# Altium schematic symbol library 6903 6719 xx 72.SchLib: 12 symbols
Pins are listed as number, name and electrical type; pins without a type are passive.

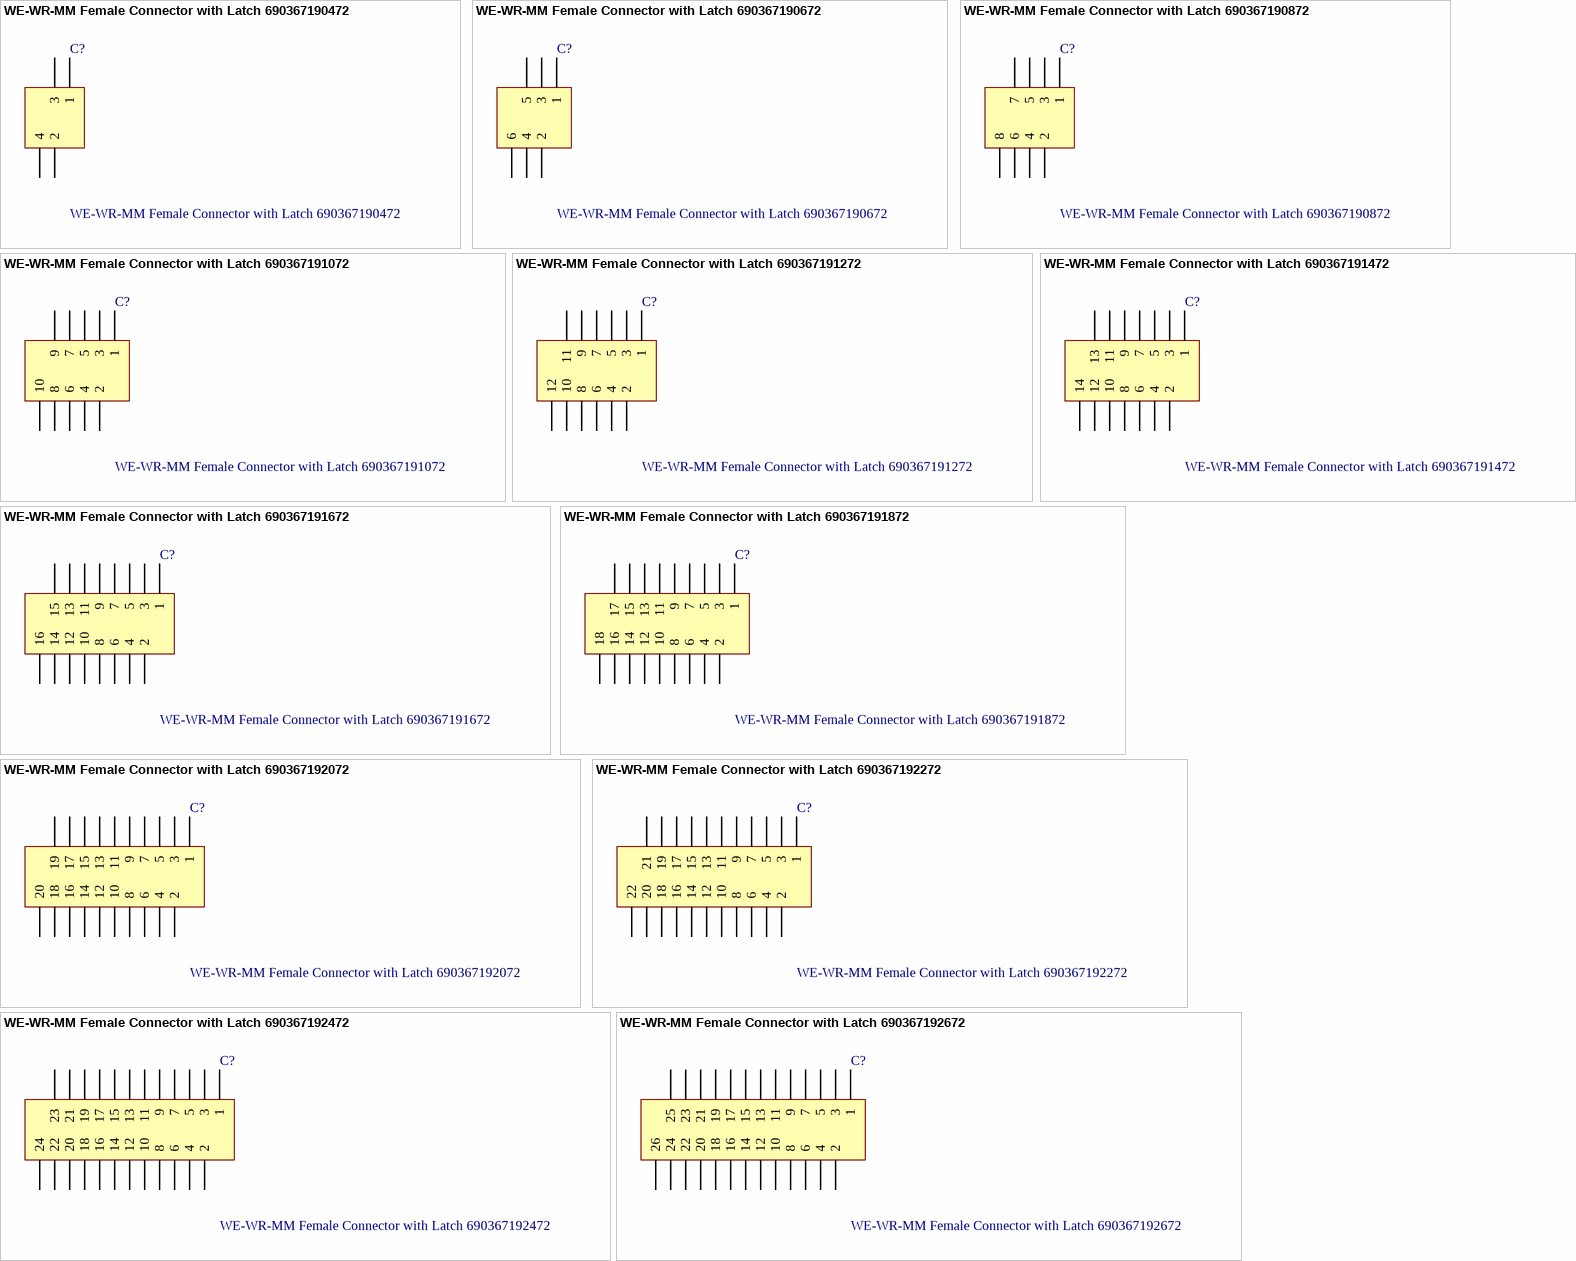
[diagram p0: symbols WE-WR-MM Female Connector with Latch 690367190472 to WE-WR-MM Female Connector with Latch 690367192672]

## WE-WR-MM Female Connector with Latch 690367190472
designator C?
WR-MM Female Connector with Latch; Manufacturer: Würth Elektronik eiSos GmbH; ComponentLink1 Description: Manufacturer; ComponentLink2 Description: Datasheet; NoPins: 4; Created Date: 17 April 2013; partNo: 690367190472; ComponentLink1URL: http://www.we-online.com; ComponentLink2URL: http://katalog.we-online.de/em/datasheet/69036719xx72.pdf; Created by: Karrer Zheng
footprint 690367190472 (without Polarization, 4 pins, straight)
pins: 1, 2, 3, 4

## WE-WR-MM Female Connector with Latch 690367190672
designator C?
WR-MM Female Connector with Latch; Manufacturer: Würth Elektronik eiSos GmbH; ComponentLink1 Description: Manufacturer; ComponentLink2 Description: Datasheet; NoPins: 6; Created Date: 17 April 2013; partNo: 690367190672; ComponentLink1URL: http://www.we-online.com; ComponentLink2URL: http://katalog.we-online.de/em/datasheet/69036719xx72.pdf; Created by: Karrer Zheng
footprint 690367190672 (without Polarization, 6 pins, straight)
pins: 1, 2, 3, 4, 5, 6

## WE-WR-MM Female Connector with Latch 690367190872
designator C?
WR-MM Female Connector with Latch; Manufacturer: Würth Elektronik eiSos GmbH; ComponentLink1 Description: Manufacturer; ComponentLink2 Description: Datasheet; NoPins: 8; Created Date: 17 April 2013; partNo: 690367190872; ComponentLink1URL: http://www.we-online.com; ComponentLink2URL: http://katalog.we-online.de/em/datasheet/69036719xx72.pdf; Created by: Karrer Zheng
footprint 690367190872 (without Polarization, 8 pins, straight)
pins: 1, 2, 3, 4, 5, 6, 7, 8

## WE-WR-MM Female Connector with Latch 690367191072
designator C?
WR-MM Female Connector with Latch; Manufacturer: Würth Elektronik eiSos GmbH; ComponentLink1 Description: Manufacturer; ComponentLink2 Description: Datasheet; NoPins: 10; Created Date: 17 April 2013; partNo: 690367191072; ComponentLink1URL: http://www.we-online.com; ComponentLink2URL: http://katalog.we-online.de/em/datasheet/69036719xx72.pdf; Created by: Karrer Zheng
footprint 690367191072 (without Polarization, 10 pins, straight)
pins: 1, 2, 3, 4, 5, 6, 7, 8, 9, 10

## WE-WR-MM Female Connector with Latch 690367191272
designator C?
WR-MM Female Connector with Latch; Manufacturer: Würth Elektronik eiSos GmbH; ComponentLink1 Description: Manufacturer; ComponentLink2 Description: Datasheet; NoPins: 12; Created Date: 17 April 2013; partNo: 690367191272; ComponentLink1URL: http://www.we-online.com; ComponentLink2URL: http://katalog.we-online.de/em/datasheet/69036719xx72.pdf; Created by: Karrer Zheng
footprint 690367191272 (without Polarization, 12 pins, straight)
pins: 1, 2, 3, 4, 5, 6, 7, 8, 9, 10, 11, 12

## WE-WR-MM Female Connector with Latch 690367191472
designator C?
WR-MM Female Connector with Latch; Manufacturer: Würth Elektronik eiSos GmbH; ComponentLink1 Description: Manufacturer; ComponentLink2 Description: Datasheet; NoPins: 14; Created Date: 17 April 2013; partNo: 690367191472; ComponentLink1URL: http://www.we-online.com; ComponentLink2URL: http://katalog.we-online.de/em/datasheet/69036719xx72.pdf; Created by: Karrer Zheng
footprint 690367191472 (without Polarization, 14 pins, straight)
pins: 1, 2, 3, 4, 5, 6, 7, 8, 9, 10, 11, 12, 13, 14

## WE-WR-MM Female Connector with Latch 690367191672
designator C?
WR-MM Female Connector with Latch; Manufacturer: Würth Elektronik eiSos GmbH; ComponentLink1 Description: Manufacturer; ComponentLink2 Description: Datasheet; NoPins: 16; Created Date: 17 April 2013; partNo: 690367191672; ComponentLink1URL: http://www.we-online.com; ComponentLink2URL: http://katalog.we-online.de/em/datasheet/69036719xx72.pdf; Created by: Karrer Zheng
footprint 690367191672 (without Polarization, 16 pins, straight)
pins: 1, 2, 3, 4, 5, 6, 7, 8, 9, 10, 11, 12, 13, 14, 15, 16

## WE-WR-MM Female Connector with Latch 690367191872
designator C?
WR-MM Female Connector with Latch; Manufacturer: Würth Elektronik eiSos GmbH; ComponentLink1 Description: Manufacturer; ComponentLink2 Description: Datasheet; NoPins: 18; Created Date: 17 April 2013; partNo: 690367191872; ComponentLink1URL: http://www.we-online.com; ComponentLink2URL: http://katalog.we-online.de/em/datasheet/69036719xx72.pdf; Created by: Karrer Zheng
footprint 690367191872 (without Polarization, 18 pins, straight)
pins: 1, 2, 3, 4, 5, 6, 7, 8, 9, 10, 11, 12, 13, 14, 15, 16, 17, 18

## WE-WR-MM Female Connector with Latch 690367192072
designator C?
WR-MM Female Connector with Latch; Manufacturer: Würth Elektronik eiSos GmbH; ComponentLink1 Description: Manufacturer; ComponentLink2 Description: Datasheet; NoPins: 20; Created Date: 17 April 2013; partNo: 690367192072; ComponentLink1URL: http://www.we-online.com; ComponentLink2URL: http://katalog.we-online.de/em/datasheet/69036719xx72.pdf; Created by: Karrer Zheng
footprint 690367192072 (without Polarization, 20 pins, straight)
pins: 1, 2, 3, 4, 5, 6, 7, 8, 9, 10, 11, 12, 13, 14, 15, 16, 17, 18, 19, 20

## WE-WR-MM Female Connector with Latch 690367192272
designator C?
WR-MM Female Connector with Latch; Manufacturer: Würth Elektronik eiSos GmbH; ComponentLink1 Description: Manufacturer; ComponentLink2 Description: Datasheet; NoPins: 22; Created Date: 17 April 2013; partNo: 690367192272; ComponentLink1URL: http://www.we-online.com; ComponentLink2URL: http://katalog.we-online.de/em/datasheet/69036719xx72.pdf; Created by: Karrer Zheng
footprint 690367192272 (without Polarization, 22 pins, straight)
pins: 1, 2, 3, 4, 5, 6, 7, 8, 9, 10, 11, 12, 13, 14, 15, 16, 17, 18, 19, 20, 21, 22

## WE-WR-MM Female Connector with Latch 690367192472
designator C?
WR-MM Female Connector with Latch; Manufacturer: Würth Elektronik eiSos GmbH; ComponentLink1 Description: Manufacturer; ComponentLink2 Description: Datasheet; NoPins: 24; Created Date: 17 April 2013; partNo: 690367192472; ComponentLink1URL: http://www.we-online.com; ComponentLink2URL: http://katalog.we-online.de/em/datasheet/69036719xx72.pdf; Created by: Karrer Zheng
footprint 690367192472 (without Polarization, 24 pins, straight)
pins: 1, 2, 3, 4, 5, 6, 7, 8, 9, 10, 11, 12, 13, 14, 15, 16, 17, 18, 19, 20, 21, 22, 23, 24

## WE-WR-MM Female Connector with Latch 690367192672
designator C?
WR-MM Female Connector with Latch; Manufacturer: Würth Elektronik eiSos GmbH; ComponentLink1 Description: Manufacturer; ComponentLink2 Description: Datasheet; NoPins: 26; Created Date: 17 April 2013; partNo: 690367192672; ComponentLink1URL: http://www.we-online.com; ComponentLink2URL: http://katalog.we-online.de/em/datasheet/69036719xx72.pdf; Created by: Karrer Zheng
footprint 690367192672 (without Polarization, 26 pins, straight)
pins: 1, 2, 3, 4, 5, 6, 7, 8, 9, 10, 11, 12, 13, 14, 15, 16, 17, 18, 19, 20, 21, 22, 23, 24, 25, 26